# Altium schematic symbol library Mounting_Hole.SchLib: 1 symbol
Pins are listed as number, name and electrical type; pins without a type are passive.

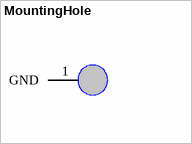
[diagram p0: symbol MountingHole]

## MountingHole
designator U?, comment VJ0805Y105KXQRW1BC
Manufacturer: Vitramon; Part Number: VJ0805Y105KXQRW1BC
footprint CAPC2013X145X50LL20T20 (Chip Capacitor, 2-Leads, Body 2.00x1.25mm, IPC High Density)
footprint CAPC2013X145X50ML20T20 (Chip Capacitor, 2-Leads, Body 2.00x1.25mm, IPC Low Density)
footprint mounting_hole
pins: 1 GND
1 alternate drawing of the same symbol